# EAGLE library part TLC5971-PWP (library dr-library)
TLC5971 12-Channel, 16-Bit, Enhanced Spectrum, PWM, RGB, LED Driver With 3.3-V Linear Regulator PWP Package - HTSSOP20 6.50mm x 4.40mm http://www.ti.com/lit/ds/symlink/tlc5971.pdf
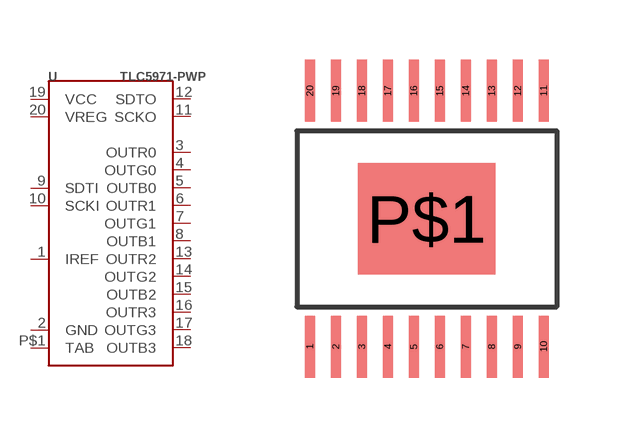
[diagram p30: symbol with the pads of HTSSOP-20; footprint HTSSOP-20]

Designator prefix U

## TLC5971-PWP  [HTSSOP-20]
1  IREF
2  GND
3  OUTR0
4  OUTG0
5  OUTB0
6  OUTR1
7  OUTG1
8  OUTB1
9  SDTI
10  SCKI
11  SCKO
12  SDTO
13  OUTR2
14  OUTG2
15  OUTB2
16  OUTR3
17  OUTG3
18  OUTB3
19  VCC
20  VREG
P$1  TAB

## Footprint HTSSOP-20 (pad centres in mm)
smd 0.25 x 1.55: 1 -2.925,-3.2; 2 -2.275,-3.2; 3 -1.625,-3.2; 4 -0.975,-3.2; 5 -0.325,-3.2; 6 0.325,-3.2; 7 0.975,-3.2; 8 1.625,-3.2; 9 2.275,-3.2; 10 2.925,-3.2; 11 2.925,3.2; 12 2.275,3.2; 13 1.625,3.2; 14 0.975,3.2; 15 0.325,3.2; 16 -0.325,3.2; 17 -0.975,3.2; 18 -1.625,3.2; 19 -2.275,3.2; 20 -2.925,3.2
smd 3.43 x 2.785: P$1 0,0